# Altium schematic symbol library cicloV2_lib.SchLib: 18 symbols
Pins are listed as number, name and electrical type; pins without a type are passive.

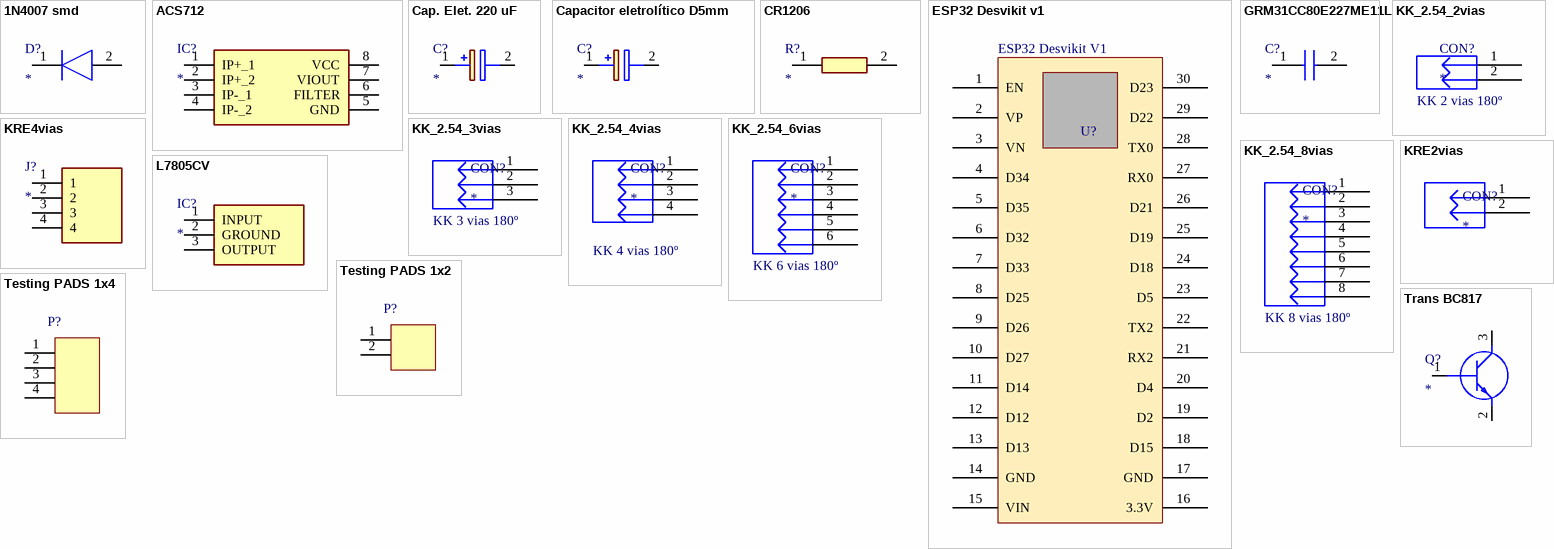
[diagram p0: symbols 1N4007 smd to Trans BC817]

## 1N4007 smd
designator D?
Diode smd; Manufacturer_Name: Shikues; Manufacturer_Part_Number: 1N4007; Datasheet Link: https://datasheet.lcsc.com/szlcsc/SK-1N4007_C126233.pdf; Height: 2.42mm
footprint DIOM5327X242N
pins: 1 K, 2 A

## ACS712
designator IC?
Sensor de corrente 20A; Manufacturer_Name: Sharp Microelectronics; Manufacturer_Part_Number: ACS712ELCTR-05B-T; Datasheet Link: https://www.allegromicro.com/~/media/Files/Datasheets/ACS712-Datasheet.ashx; Height: 1.75mm
footprint SOIC127P600X175-8N
pins: 1 IP+_1, 2 IP+_2, 3 IP-_1, 4 IP-_2, 5 GND, 6 FILTER, 7 VIOUT, 8 VCC

## Cap. Elet. 220 uF
designator C?
Capacitor eletrolítico 220uF; Manufacturer_Name: Panasonic; Manufacturer_Part_Number: 16SEPC470M; Datasheet Link: http://industrial.panasonic.com/www-cgi/jvcr13pz.cgi?E+CI+4+AAB8010+16SEPC470M+8+WW; Height: 13mm; Mouser Part Number: 667-16SEPC470M; Mouser Price/Stock: https://www.mouser.co.uk/ProductDetail/Panasonic/16SEPC470M?qs=OE1iw1LrrPEdZuWyF2l%252B5w%3D%3D; Arrow Part Number: 16SEPC470M; Arrow Price/Stock: https://www.arrow.com/en/products/16sepc470m/panasonic
footprint Cap. Elet. 470uF 16V
pins: 1 +, 2 -

## Capacitor eletrolítico D5mm
designator C?
Capacitor Polarised; Manufacturer_Name: Panasonic; Manufacturer_Part_Number: ECA-0JM221; Datasheet Link: http://industrial.panasonic.com/cdbs/www-data/pdf/RDF0000/ABA0000C1218.pdf; Height: 12mm; Mouser Part Number: 667-ECA-0JM221; Mouser Price/Stock: https://www.mouser.com/Search/Refine.aspx?Keyword=667-ECA-0JM221; Arrow Part Number: ECA-0JM221; Arrow Price/Stock: https://www.arrow.com/en/products/eca-0jm221/panasonic
footprint CAPPRD200W55D500H1200
pins: 1 +, 2 -

## CR1206
designator R?
Resistor SMD 1206; Manufacturer_Name: Bourns; Manufacturer_Part_Number: CR1206-F/-2R00ELF; Height: 0.75mm; Mouser Part Number: 652-CR1206-F/2R00ELF; Mouser Price/Stock: https://www.mouser.co.uk/ProductDetail/Bourns/CR1206-F-2R00ELF?qs=W%2FMpXkg%252BdQ47Z%2FeZv1nDSg%3D%3D
footprint RESC3216X75N
pins: 1, 2

## ESP32 Desvikit v1
designator U?, comment value ESP32 Desvikit V1  (hidden comment: microcontrolador)
microcontrolador com modulo bluetooth e wifi
footprint ESP32_Desvikit_v1
pins: 1 EN, 2 VP, 3 VN, 4 D34, 5 D35, 6 D32, 7 D33, 8 D25, 9 D26, 10 D27, 11 D14, 12 D12, 13 D13, 14 GND, 15 VIN, 16 3.3V, 17 GND, 18 D15, 19 D2, 20 D4, 21 RX2, 22 TX2, 23 D5, 24 D18, 25 D19, 26 D21, 27 RX0, 28 TX0, 29 D22, 30 D23

## GRM31CC80E227ME11L
designator C?
Capacitor cerâmico SMD; Manufacturer_Name: Murata Electronics; Manufacturer_Part_Number: GRM31CC80E227ME11L; Datasheet Link: https://datasheet.datasheetarchive.com/originals/distributors/DKDS-10/192368.pdf; Height: 1.8mm; Mouser Part Number: 81-GRM31CC80E227ME1L; Mouser Price/Stock: https://www.mouser.com/Search/Refine.aspx?Keyword=81-GRM31CC80E227ME1L; Arrow Part Number: GRM31CC80E227ME11L; Arrow Price/Stock: https://www.arrow.com/en/products/grm31cc80e227me11l/murata-manufacturing
footprint CAPC3216X180N
pins: 1, 2

## KK_2.54_2vias
designator CON?  Valor: KK 2 vias 180º
Conector KK 2.54mm 2 vias; Descrição: Conector KK 3 vias com passo 2.54mm; Encapsulamento: PTH - 180º; Modelo: 2 vias - 180º; Marca: *; Observação: *
footprint KK_2VIAS_180
pins: 1, 2

## KK_2.54_3vias
designator CON?  Valor: KK 3 vias 180º
Conector KK 2.54mm 3 vias; Descrição: Conector KK 3 vias com passo 2.54mm; Encapsulamento: PTH - 180º; Modelo: 3 vias - 180º; Marca: *; Observação: *
footprint KK_3vias_180
pins: 1, 2, 3

## KK_2.54_4vias
designator CON?  Valor: KK 4 vias 180º
Conector KK 2.54mm 4 vias; Descrição: Conector KK 3 vias com passo 2.54mm; Encapsulamento: PTH - 180º; Modelo: 3 vias - 180º; Marca: *; Observação: *
footprint KK_4vias_180
pins: 1, 2, 3, 4

## KK_2.54_6vias
designator CON?  Valor: KK 6 vias 180º
Conector KK 2.54mm 6 vias; Descrição: Conector KK 3 vias com passo 2.54mm; Encapsulamento: PTH - 180º; Modelo: 3 vias - 180º; Marca: *; Observação: *
footprint KK_6vias_180
pins: 1, 2, 3, 4, 5, 6

## KK_2.54_8vias
designator CON?  Valor: KK 8 vias 180º
Conector KK 2.54mm 8 vias; Descrição: Conector KK 3 vias com passo 2.54mm; Encapsulamento: PTH - 180º; Modelo: 3 vias - 180º; Marca: *; Observação: *
footprint KK_8vias_180
pins: 1, 2, 3, 4, 5, 6, 7, 8

## KRE2vias
designator CON?
Conector 2 vias; Descrição: Conector KRE 2 vias 180º; Encapsulamento: PTH - 180º; Modelo: 2 vias - 180º; Marca: *; Observação: *
footprint KRE2-2vias
pins: 1, 2

## KRE4vias
designator J?
KRE 4 VIAS; Manufacturer_Name: Phoenix Contact; Manufacturer_Part_Number: 1711042; Datasheet Link: http://www.phoenixcontact.com/de/produkte/1711042/pdf; Height: 18.2mm; Mouser Part Number: 651-1711042; Mouser Price/Stock: https://www.mouser.co.uk/ProductDetail/Phoenix-Contact/1711042?qs=JcjeNNoqGSOUKx8wK4Z%252B%2Fg%3D%3D; Arrow Part Number: 1711042; Arrow Price/Stock: https://www.arrow.com/en/products/1711042/phoenix-contact?region=nac
footprint 1711042
pins: 1, 2, 3, 4

## L7805CV
designator IC?
Regulador de tensão para 5V; Manufacturer_Name: STMicroelectronics; Manufacturer_Part_Number: L7805CV; Datasheet Link: http://www.st.com/web/en/resource/technical/document/datasheet/CD00000444.pdf; Height: 4.6mm; Mouser Part Number: 511-L7805CV; Mouser Price/Stock: https://www.mouser.co.uk/ProductDetail/STMicroelectronics/L7805CV?qs=9NrABl3fj%2FqplZAHiYUxWg%3D%3D; Arrow Part Number: L7805CV; Arrow Price/Stock: https://www.arrow.com/en/products/l7805cv/stmicroelectronics?region=europe
footprint TO255P460X1020X2008-3P
pins: 1 INPUT, 2 GROUND, 3 OUTPUT

## Testing PADS 1x2
designator P?  (value not drawn)
Headers & Wire Housings 40Pin 2mm Spacing Single Row Hdrs, 5pc; Manufacturer: Cromax; Mounting Angle: Vertical; Number of Positions: 40 Position; Supplier 1: -; Manufacturer Part Number: -; RoHS: RoHS Compliant; Category: Headers & Wire Housings; Stock 1: 14; Pricing 1: 1=1.60, 2=0.80 (BRL); Accessory Type: -; Contact Plating: Gold; Contact Type: -; Number of Rows: 1 Row; Product: Headers; Termination Style: Through Hole; Type: Breakaway; Brand: Cromax; Mounting Style: Straight Pin; Pitch: 2 mm; Row Spacing: -; Contact Gender: Pin (Female); Product Category: Accessories; RoHS - Mouser: Y; Minimum Order Quantity: 1; Reeling: False; ComponentLink1URL: -; ComponentLink1Description: -; Supplier Part Number 1: -
footprint Testing PADS 1x2
pins: 1, 2

## Testing PADS 1x4
designator P?  (value not drawn)
Headers & Wire Housings 40Pin 2mm Spacing Single Row Hdrs, 5pc; Manufacturer: Cromax; Mounting Angle: Vertical; Number of Positions: 40 Position; Supplier 1: -; Manufacturer Part Number: -; RoHS: RoHS Compliant; Category: Headers & Wire Housings; Stock 1: 14; Pricing 1: 1=1.60, 2=0.80 (BRL); Accessory Type: -; Contact Plating: Gold; Contact Type: -; Number of Rows: 1 Row; Product: Headers; Termination Style: Through Hole; Type: Breakaway; Brand: Cromax; Mounting Style: Straight Pin; Pitch: 2 mm; Row Spacing: -; Contact Gender: Pin (Female); Product Category: Accessories; RoHS - Mouser: Y; Minimum Order Quantity: 1; Reeling: False; ComponentLink1URL: -; ComponentLink1Description: -; Supplier Part Number 1: -
footprint Testing PADS 1x4
pins: 1, 2, 3, 4

## Trans BC817
designator Q?
Transistor BJT NPN BC817-25-7-F; Manufacturer_Name: Diodes Inc.; Datasheet Link: https://www.diodes.com/assets/Datasheets/ds11107.pdf; Height: 1.1mm; Manufacturer_Part_Number: BC817-25-7-F; Mouser Part Number: 621-BC817-25-7-F; Mouser Price/Stock: https://www.mouser.co.uk/ProductDetail/Diodes-Incorporated/BC817-25-7-F?qs=rGAXPo9uwV0jK0EyLZnqOw%3D%3D; Arrow Part Number: BC817-25-7-F; Arrow Price/Stock: https://www.arrow.com/en/products/bc817-25-7-f/diodes-incorporated
footprint SOT96P240X110-3N
pins: 1 B, 2 E, 3 C